# Altium footprint library MB1419.PcbLib: 58 footprints (part 4 of 4)
Each footprint in its own frame and in the unit in brackets; x right, y up, seen from the top. Pads: shape width x height; smd on the part's side, far side on the other; paste and mask are expansions set on the pad; w line width, h text height; cw(c..) or ccw(c..) is an arc to the next point about the centre after c.
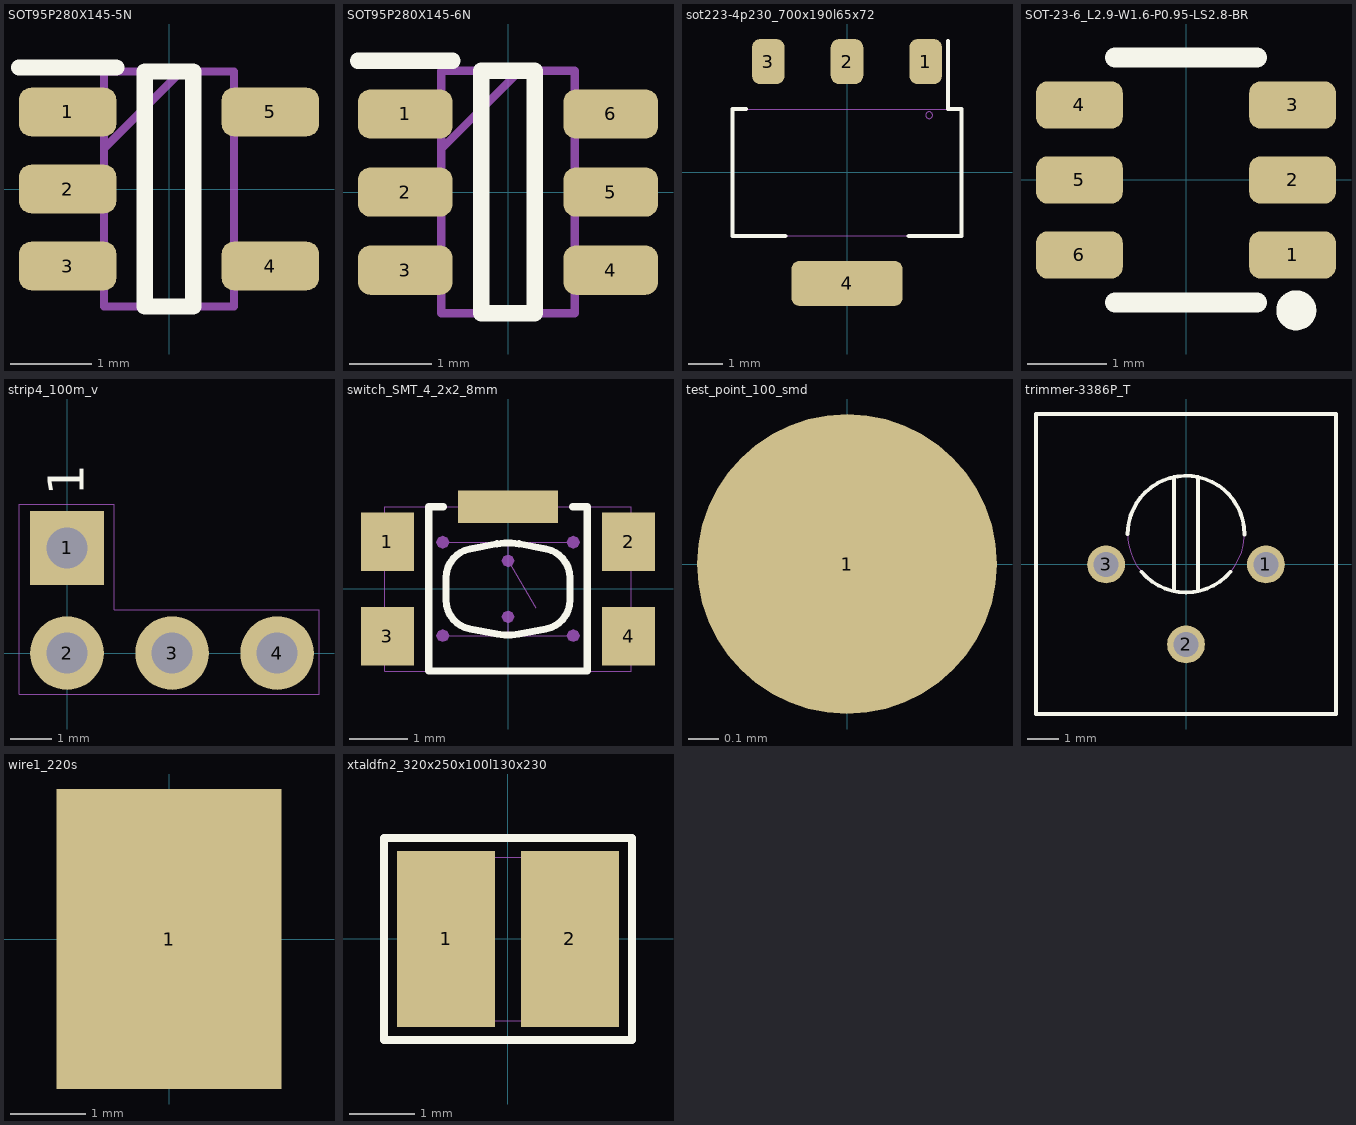
[diagram p3: the footprints below, top view; thin cyan lines are the x and y axes]

## SOT95P280X145-5N [mm]
pads (5):
  rrect50% 1.2x0.6 smd: 1(-1.25,0.95) 2(-1.25,0) 3(-1.25,-0.95) 4(1.25,-0.95) 5(1.25,0.95)
Top Overlay:
  lines w0.2: -1.85,1.5 -0.65,1.5 ; -0.3,-1.45 0.3,-1.45 0.3,1.45 -0.3,1.45 -0.3,-1.45
Mechanical 14:
  lines w0.1: -0.8,0.5 0.15,1.45 ; -0.8,-1.45 0.8,-1.45 0.8,1.45 -0.8,1.45 -0.8,-1.45
3D body "TPS2051BDBVR.stp": height 1.2, standoff 0, extent -1.4,-1.45 1.4,1.45

## SOT95P280X145-6N [mm]
pads (6):
  rrect50% 1.15x0.6 smd: 1(-1.25,0.95) 2(-1.25,0) 3(-1.25,-0.95) 4(1.25,-0.95) 5(1.25,0) 6(1.25,0.95)
Top Overlay:
  lines w0.2: -1.825,1.6 -0.675,1.6 ; -0.325,-1.475 -0.325,1.475 0.325,1.475 0.325,-1.475 -0.325,-1.475
Mechanical 14:
  lines w0.1: -0.812,0.525 0.138,1.475 ; -0.812,-1.475 -0.812,1.475 0.812,1.475 0.812,-1.475 -0.812,-1.475
3D body "SRV05-4.TCT.stp": height 1.45, standoff 0, extent -1.4,-1.475 1.4,1.475

## sot223-4p230_700x190l65x72 [mm] "SOT223-4P230_700X190L65X72"
pads (4):
  rrect51% 0.95x1.32 smd mask+0.05: 1(2.3,3.24) 2(0,3.24) 3(-2.3,3.24)
  rrect36% 3.25x1.32 smd mask+0.05: 4(0,-3.24)
Top Overlay:
  lines w0.12: -2.955,1.85 -3.35,1.85 -3.35,-1.85 -1.805,-1.85 ; 1.805,-1.85 3.35,-1.85 3.35,1.85 2.955,1.85 2.955,3.84
Mechanical 14:
  circle w0.01: c2.4,1.675 r0.1
  lines w0.01: -3.35,-1.85 -3.35,1.85 3.35,1.85 3.35,-1.85 -3.35,-1.85
  text "2" at -0.2,2.9 h1
  text "4" at -0.2,-3.6 h1
  text "3" at -2.5,2.9 h1
  text "1" at 2.2,2.9 h1
  text "'.Designator'" at 2.05,0.3 h0.75
3D body "SOT-223.STEP": height 1.66, standoff 0.01, extent -3.25,-3.44 3.25,3.56

## SOT-23-6_L2.9-W1.6-P0.95-LS2.8-BR [mm]
pads (6):
  rrect50% 1.1x0.6 smd paste+0 mask+0.051: 1(1.35,-0.95) 2(1.35,0) 3(1.35,0.95) 4(-1.35,0.95) 5(-1.35,0) 6(-1.35,-0.95)
Top Overlay:
  circle w0.254: c1.397,-1.651 r0.127
  lines w0.254: -0.9,-1.55 0.9,-1.55 ; -0.9,1.55 0.9,1.55
3D body "SRV05-4.TCT.stp": height 1.45, standoff 0, extent -1.4,-1.475 1.4,1.475

## strip4_100m_v [mil] "STRIP4_100M_V"
pads (4):
  rect 70x70 hole 39 mask+3.94: 1(0,100)
  round 70 hole 39 mask+3.94: 2(0,0) 3(100,0) 4(200,0)
Top Overlay:
  text "1" at 27.52,149.84 h59.06
Mechanical 14:
  lines w0.39: -45.67,-39.37 239.76,-39.37 239.76,41.34 44.88,41.34 44.88,141.73 -45.67,141.73 -45.67,-39.37
  text "'.Designator'" at 81.3,-19.69 h29.53
  text "3" at 100,-10 h39.37
  text "4" at 200,-10 h39.37
  text "2" at 0,-10 h39.37
  text "1" at 0,90 h39.37
  text "1" at -31.65,90.2 h39.37

## switch_SMT_4_2x2_8mm [mm] "SWITCH_SMT_4_2X2_8MM"
pads (5):
  rect 0.9x1 smd mask+0.05: 1(-2.056,0.805) 2(2.056,0.805) 3(-2.056,-0.805) 4(2.056,-0.805)
  rect 1.7x0.56 smd mask+0.05: " "(0,1.4)
Top Overlay:
  lines w0.12: -1.1,1.4 -1.35,1.4 -1.35,-1.4 1.35,-1.4 1.35,1.4 1.1,1.4 ; -1.055,-0.191 ccw(c-0.555,-0.191) -0.648,-0.682 -0.186,-0.77 ccw(c0,0.213) 0.186,-0.77 0.648,-0.682 ccw(c0.555,-0.191) 1.055,-0.191 1.055,0.191 ccw(c0.555,0.191) 0.648,0.682 0.186,0.77 ccw(c0,-0.213) -0.186,0.77 -0.648,0.682 ccw(c-0.555,0.191) -1.055,0.191 -1.055,-0.191
Mechanical 14:
  lines w0.01: -1.112,-0.794 1.112,-0.794 ; -1.112,0.794 1.112,0.794 ; 0,-0.794 0,-0.476 ; 0,0.794 0,0.476 0.476,-0.318 ; -2.1,-1.4 -2.1,1.4 2.1,1.4 2.1,-1.4 -2.1,-1.4 ; -1.055,-0.191 ccw(c-0.555,-0.191) -0.648,-0.682 -0.186,-0.77 ccw(c0,0.213) 0.186,-0.77 0.648,-0.682 ccw(c0.555,-0.191) 1.055,-0.191 1.055,0.191 ccw(c0.555,0.191) 0.648,0.682 0.186,0.77 ccw(c0,-0.213) -0.186,0.77 -0.648,0.682 ccw(c-0.555,0.191) -1.055,0.191 -1.055,-0.191
  text "1" at -2.05,0.475 h1
  text "2" at 1.625,0.475 h1
  text "3" at -2.05,-1.125 h1
  text "miniswitch-KMR211GLFS" at -2.525,-1.775 h0.5
  text "4" at 1.6,-1.15 h1
  text "'.Designator'" at -1.935,-2.075 h0.75
Mechanical 16:
  pour cut-out: -1.112,0.902 -1.188,0.871 -1.22,0.794 -1.188,0.717 -1.112,0.686 -1.035,0.717 -1.003,0.794 -1.035,0.871
  pour cut-out: 0,0.585 -0.077,0.553 -0.108,0.476 -0.077,0.4 0,0.368 0.077,0.4 0.108,0.476 0.077,0.553
  pour cut-out: 1.112,0.902 1.035,0.871 1.003,0.794 1.035,0.717 1.112,0.686 1.188,0.717 1.22,0.794 1.188,0.871
  pour cut-out: 0,-0.368 -0.077,-0.4 -0.108,-0.476 -0.077,-0.553 0,-0.585 0.077,-0.553 0.108,-0.476 0.077,-0.4
  pour cut-out: -1.112,-0.686 -1.188,-0.717 -1.22,-0.794 -1.188,-0.871 -1.112,-0.902 -1.035,-0.871 -1.003,-0.794 -1.035,-0.717
  pour cut-out: 1.112,-0.686 1.035,-0.717 1.003,-0.794 1.035,-0.871 1.112,-0.902 1.188,-0.871 1.22,-0.794 1.188,-0.717
3D body "KMR211GLFS.stp": height 1.92, standoff -0.02, extent -2.31,-1.39 2.29,1.41

## test_point_100_smd [mm] "TEST_POINT_100_SMD"
pads (1):
  round 1 smd paste-100 mask+0.05: 1(0,0)
Mechanical 14:
  circle w0.01: c0,0 r0.457
  text "1" at -0.125,-0.325 h1
  text "'.Designator'" at 3.175,0.3 h0.75

## trimmer-3386P_T [mm] "TRIMMER-3386P_T"
pads (3):
  round 1.2 hole 0.8 mask+0.1: 1(2.54,-0.015) 2(0,-2.555) 3(-2.54,-0.015)
Top Overlay:
  lines w0.12: -1.854,0.949 cw(c0,0.949) -1.82,1.303 cw(c0,0.949) 1.854,0.94 ; -1.416,-0.248 ccw(c0,0.949) 1.416,-0.248 ; -0.381,-0.865 -0.381,-0.575 -0.381,0.568 -0.381,2.473 -0.381,2.764 ; 0.381,-0.865 0.381,-0.575 0.381,0.568 0.381,2.769 ; -4.765,-4.765 4.765,-4.765 4.765,4.765 -4.765,4.765 -4.765,-4.765
Mechanical 14:
  lines w0.01: -0.381,-0.865 -0.381,-0.575 -0.381,0.568 -0.381,2.473 -0.381,2.764 ; 0.381,-0.865 0.381,-0.575 0.381,0.568 0.381,2.473 0.381,2.764 ; -4.765,-4.765 4.765,-4.765 4.765,4.765 -4.765,4.765 -4.765,-4.765 ; -1.854,0.949 cw(c0,0.949) -1.82,1.303 cw(c0,0.949) -1.82,0.595 cw(c0,0.949) -1.854,0.949
  text "'.Designator'" at 2.05,-3.55 h0.75
  text "1" at 2.425,-0.3 h1
  text "10k" at 0.7,4.025 h1
  text "2" at -0.25,-2.875 h1
  text "3" at -2.775,-0.3 h1
3D body "3386-T.stp": height 10.55, standoff -5.93, extent -4.798,-4.849 4.778,4.727

## wire1_220s [mm] "WIRE1_220S"
pads (1):
  rect 3x4 smd paste-100 mask+0.05: 1(0,0)
Mechanical 14:
  text "1" at -0.125,-0.325 h1
  text "'.Designator'" at -1.975,0.325 h0.75

## xtaldfn2_320x250x100l130x230 [mm] "XTALDFN2_320X250X100L130X230"
pads (2):
  rect 1.5x2.7 smd mask+0.05: 1(-0.95,0) 2(0.95,0)
Top Overlay:
  lines w0.12: -1.9,-1.55 -1.9,1.55 1.9,1.55 1.9,-1.55 -1.9,-1.55
Mechanical 14:
  lines w0.01: -1.6,-1.25 -1.6,1.25 1.6,1.25 1.6,-1.25 -1.6,-1.25
  text "2" at 1.125,-0.325 h1
  text "1" at -1.55,-0.325 h1
  text "'.Designator'" at 2.025,-0.225 h0.75
3D body "XTALDFN320X250X100-2.STEP": height 1.01, standoff 0.01, extent -1.61,-1.25 1.59,1.25